# Altium footprint library Crystal Oscillator.PcbLib: 26 footprints (part 2 of 2)
Each footprint in its own frame and in the unit in brackets; x right, y up, seen from the top. Pads: shape width x height; smd on the part's side, far side on the other; paste and mask are expansions set on the pad; w line width, h text height; cw(c..) or ccw(c..) is an arc to the next point about the centre after c.
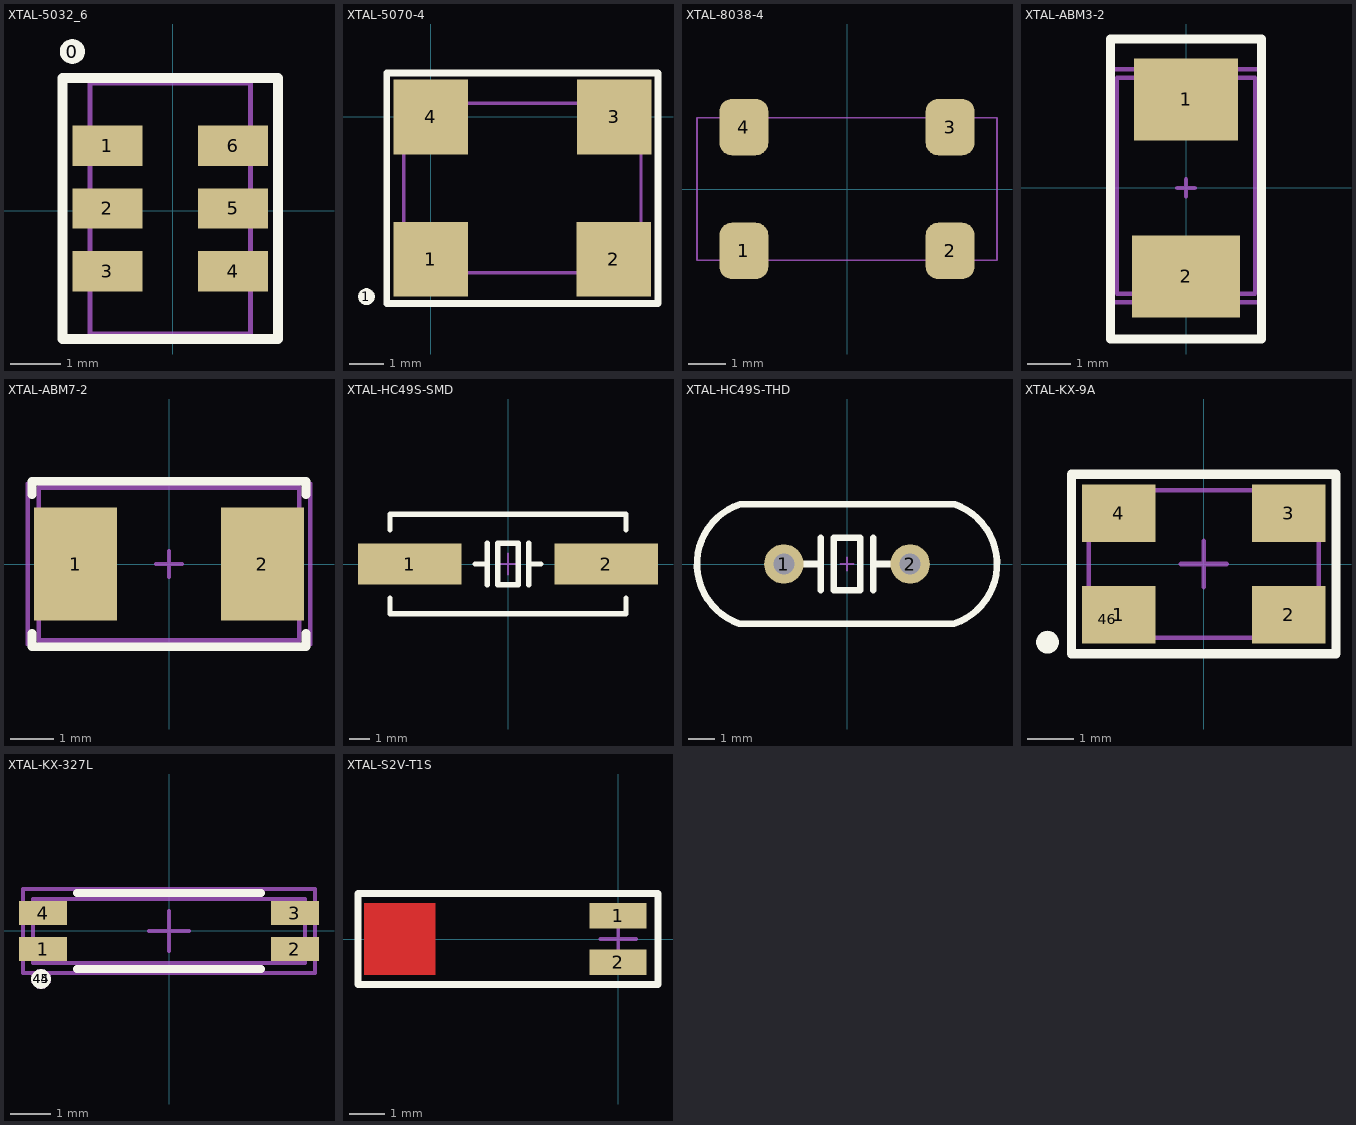
[diagram p1: the footprints below, top view; thin cyan lines are the x and y axes]

## XTAL-5032_6 [mm]
pads (7):
  round 0.5 on Top Overlay: 0(-2,3.175)
  rect 1.4x0.8 smd: 1(-1.3,1.3) 2(-1.3,0.05) 3(-1.3,-1.2) 4(1.2,-1.2) 5(1.2,0.05) 6(1.2,1.3)
Top Overlay:
  lines w0.2: -2.2,-2.55 -2.2,2.65 2.1,2.65 2.1,-2.55 -2.2,-2.55
Mechanical 1:
  lines w0.1: -1.65,-2.45 1.55,-2.45 1.55,2.55 -1.65,2.55 -1.65,-2.45
3D body "User Library-H53-5x3_2.STEP": height 1.22, standoff 0, extent -1.65,-2.45 1.55,2.55

## XTAL-5070-4 [mm]
pads (5):
  round 0.5 on Top Overlay: 1(-1.9,-5.3)
  rect 2.2x2.2 smd: 1(0,-4.2) 2(5.4,-4.2) 3(5.41,0) 4(0,0)
Top Overlay:
  lines w0.2: -1.3,-5.5 6.7,-5.5 6.7,1.3 -1.3,1.3 -1.3,-5.5
Mechanical 1:
  lines w0.1: -0.8,-4.6 6.2,-4.6 6.2,0.4 -0.8,0.4 -0.8,-4.6
3D body "User Library-50 MHz.STEP": height 1.51, standoff -0.01, extent -0.8,-4.6 6.2,0.4

## XTAL-8038-4 [mm]
height 2.54
pads (4):
  rrect50% 1.3x1.5 smd: 1(-2.75,-1.65) 2(2.75,-1.65) 3(2.75,1.65) 4(-2.75,1.65)
Mechanical 13:
  lines w0.051: -4,-1.9 -4,1.9 4,1.9 4,-1.9 -4,-1.9
3D body "SW3dPS-ZM206.STEP": height 2.43, standoff -0.1, extent -4.012,-1.9 3.988,1.9

## XTAL-ABM3-2 [mm] "Quartz"
height 1.5
pads (2):
  rect 2.4x1.9 smd: 1(0,2.05)
  rect 2.5x1.9 smd: 2(0,-2.05)
Top Overlay:
  lines w0.2: -1.75,-3.5 1.75,-3.5 1.75,-3.2 1.75,3.45 -1.75,3.45 -1.75,-3.5
Mechanical 1:
  lines w0.1: -1.6,-2.45 1.6,-2.45 1.6,2.55 -1.6,2.55 -1.6,-2.45
Mechanical 15:
  lines w0.1: -0.2,0 0.2,0 ; 0,-0.2 0,0.2 ; -1.8,-2.65 -1.8,2.75 1.8,2.75 1.8,-2.65 -1.8,-2.65
3D body "User Library-ABM3-1.STEP": height 1.3, standoff 0, extent -1.6,-2.45 1.6,2.55

## XTAL-ABM7-2 [mm]
pads (2):
  rect 1.9x2.6 smd: 1(-2.15,0) 2(2.15,0)
Top Overlay:
  lines w0.2: -3.15,-1.6 -3.15,-1.9 3.15,-1.9 3.15,-1.6 ; -3.15,1.6 -3.15,1.9 3.15,1.9 3.15,1.6
Mechanical 1:
  lines w0.1: -2.997,-1.752 -2.997,1.753 2.997,1.753 2.997,-1.752 -2.997,-1.752
Mechanical 15:
  lines w0.1: -0.3,0 0.3,0 ; 0,-0.3 0,0.3 ; -3.25,-1.85 -3.25,1.85 3.25,1.85 3.25,-1.85 -3.25,-1.85
3D body "ABM7.STEP": height 1.4, standoff 0, extent -2.997,-1.752 2.997,1.753

## XTAL-HC49S-SMD [mm]
pads (2):
  rect 5x2 smd: 1(-4.75,0) 2(4.75,0)
Top Overlay:
  lines w0.254: -5.7,-1.65 -5.7,-2.4 5.7,-2.4 5.7,-1.65 ; -5.7,1.65 -5.7,2.4 5.7,2.4 5.7,1.65 ; -1.6,0 -1,0 ; -1,-1 -1,1 ; 1,-1 1,1 ; 1,0 1.6,0 ; -0.5,-1 -0.5,1 0.5,1 0.5,-1 -0.5,-1
Mechanical 15:
  lines w0.076: -0.508,0 0.508,0 ; 0,-0.508 0,0.508
3D body "User Library-hc49_cystal.STEP": height 4, standoff 0, extent -6.7,-2.462 6.7,2.438

## XTAL-HC49S-THD [mm]
pads (2):
  round 1.5 hole 0.8: 1(-2.4,0) 2(2.4,0)
Top Overlay:
  lines w0.254: -4.09,-2.275 4.059,-2.275 ccw(c3.298,0.003) 4.09,2.271 ; -4.09,-2.271 cw(c-3.298,-0.003) -4.059,2.275 4.09,2.275 ; -1.6,0 -1,0 ; -1,-1 -1,1 ; 1,-1 1,1 ; 1,0 1.6,0 ; -0.5,-1 -0.5,1 0.5,1 0.5,-1 -0.5,-1
Mechanical 15:
  lines w0.076: -0.254,0 0.254,0 ; 0,-0.254 0,0.254
3D body "SW3dPS-HP49US.STEP": height 3.5, standoff -4, extent -5.675,-2.35 5.675,2.3

## XTAL-KX-9A [mm] "Quartz Crystal  KXï¿½9A"
height 1
pads (6):
  rect 1.6x1.25 smd: 1(-1.85,-1.1) 2(1.85,-1.1) 3(1.85,1.1) 4(-1.85,1.1)
  round 0.5 on Mech1: 46(-2.1,-1.2)
  round 0.5 on Top Overlay: ""(-3.4,-1.7)
Top Overlay:
  lines w0.2: -2.875,-1.95 2.875,-1.95 2.875,1.95 -2.875,1.95 -2.875,-1.95
Mechanical 1:
  lines w0.1: -2.5,-1.6 -2.5,1.6 2.5,1.6 2.5,-1.6 -2.5,-1.6
Mechanical 15:
  lines w0.1: -0.5,0 0.5,0 ; 0,-0.5 0,0.5 ; -2.85,-1.95 -2.85,1.95 2.85,1.95 2.85,-1.95 -2.85,-1.95
3D body "User Library-GeyerElectronics_KX9A.STEP": height 1.01, standoff 0, extent -2.5,-1.6 2.5,1.6

## XTAL-KX-327L [mm] "Quartz Crystal KX ï¿½ 327L"
height 1.4
pads (6):
  rect 1.2x0.6 smd: 1(-3.15,-0.45) 2(3.15,-0.45) 3(3.15,0.45) 4(-3.15,0.45)
  round 0.5 on Top Overlay: 44(-3.2,-1.2)
  round 0.5 on Mech1: 45(-3.2,-1.2)
Top Overlay:
  lines w0.2: -2.3,-0.95 2.3,-0.95 ; -2.3,0.95 2.3,0.95
Mechanical 1:
  lines w0.1: -3.4,-0.8 -3.4,0.8 3.4,0.8 3.4,-0.8 -3.4,-0.8
Mechanical 15:
  lines w0.1: -0.5,0 0.5,0 ; 0,-0.5 0,0.5 ; -3.65,-1.05 -3.65,1.05 3.65,1.05 3.65,-1.05 -3.65,-1.05
3D body "User Library-KX-327LT.STEP": height 1.4, standoff 0, extent -3.45,-0.75 3.45,0.75

## XTAL-S2V-T1S [mm]
height 1.5
pads (2):
  rect 1.6x0.7 smd: 1(0,0.65) 2(0,-0.65)
Top Layer:
  rectangle: -7.1,-1 -5.1,1
Top Overlay:
  lines w0.2: -7.267,-1.27 1.115,-1.27 1.115,1.27 -7.267,1.27 -7.267,-1.27
Mechanical 1:
  lines w0.1: -7.267,-1.27 1.115,-1.27 1.115,1.27 -7.267,1.27 -7.267,-1.27
Mechanical 15:
  lines w0.1: -0.5,0 0.5,0 ; 0,-0.5 0,0.5 ; -7.267,-1.27 -7.267,1.27 1.115,1.27 1.115,-1.27 -7.267,-1.27
3D body "MS2V-T1S 32768 Hz.STEP": height 1.5, standoff 0, extent -6.422,-0.738 0.778,0.762